# EAGLE library part XR21B1411IL16TR-F (library Exar_By_element14_Batch_1)
ENHANCED 1-CH FULL-SPEED USB UART
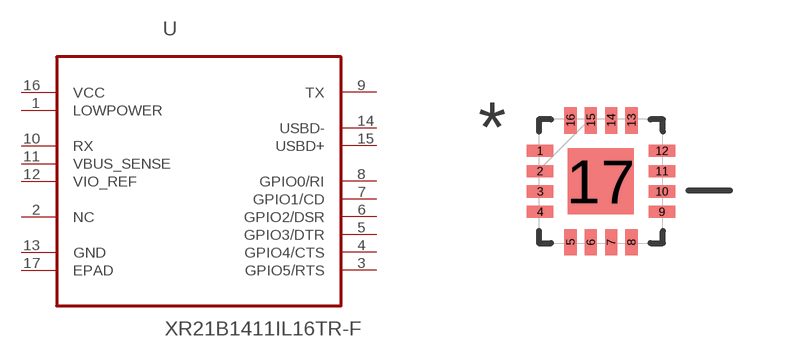
[diagram p77: symbol with the pads of QFN50P300X300X90-17N; footprint QFN50P300X300X90-17N]

Designator prefix U

## XR21B1411IL16TR-F (MPN: XR21B1411IL16TR-F; OC_FARNELL: 1859805; OC_NEWARK: 25T1419; PACKAGE: QFN-16; SUPPLIER: EXAR)  [QFN50P300X300X90-17N]
1  LOWPOWER  pwr
2  NC  nc
3  GPIO5/RTS
4  GPIO4/CTS
5  GPIO3/DTR
6  GPIO2/DSR
7  GPIO1/CD
8  GPIO0/RI
9  TX  out
10  RX  in
11  VBUS_SENSE  in
12  VIO_REF  in
13  GND  pas
14  USBD-
15  USBD+
16  VCC  pwr
17  EPAD  pas

## Footprint QFN50P300X300X90-17N (pad centres in mm)
smd 0.66 x 0.305: 1 -1.524,0.762; 2 -1.524,0.254; 3 -1.524,-0.254; 4 -1.524,-0.762; 9 1.524,-0.762; 10 1.524,-0.254; 11 1.524,0.254; 12 1.524,0.762
smd 0.305 x 0.66: 5 -0.762,-1.524; 6 -0.254,-1.524; 7 0.254,-1.524; 8 0.762,-1.524; 13 0.762,1.524; 14 0.254,1.524; 15 -0.254,1.524; 16 -0.762,1.524
smd 1.651 x 1.651: 17 0,0